# Altium schematic symbol library Pad.SchLib: 55 symbols
Pins are listed as number, name and electrical type; pins without a type are passive.

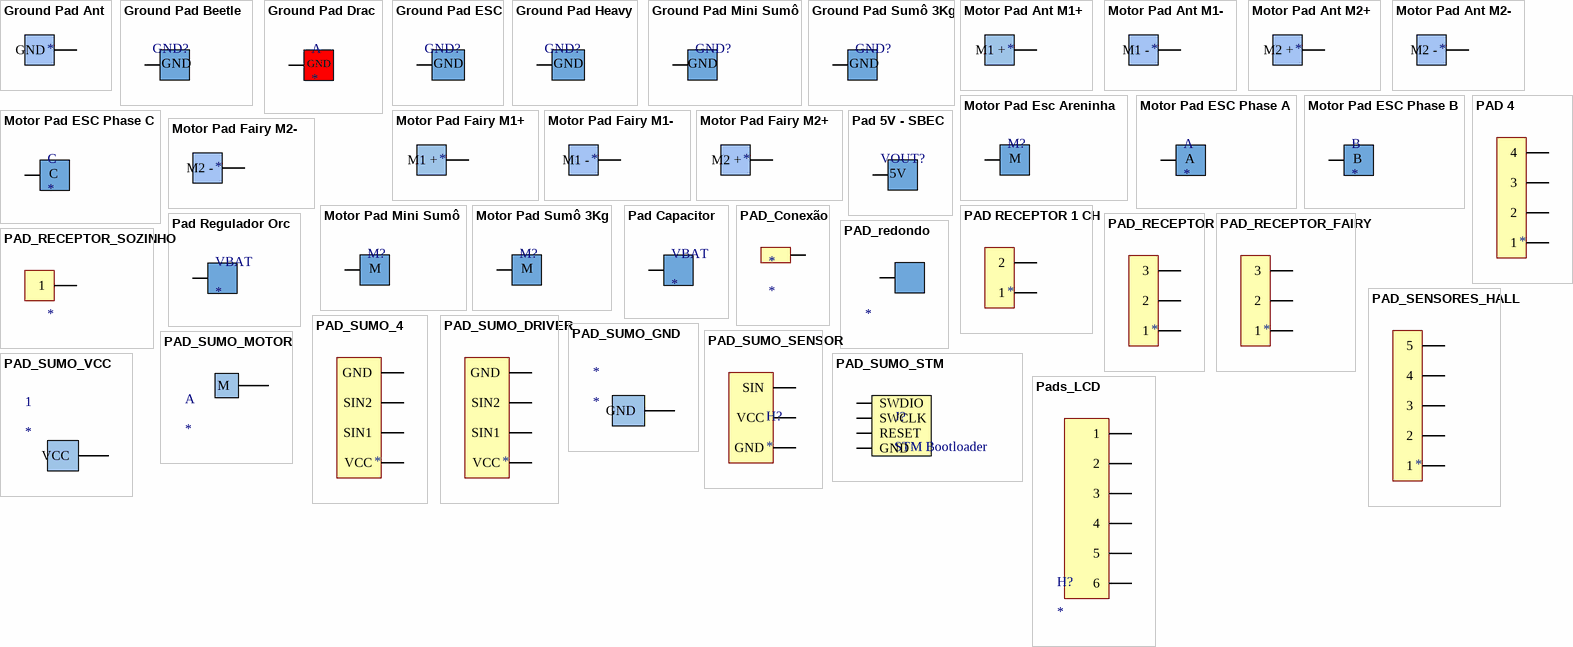
[diagram p0: symbols Ground Pad Ant to Pads_LCD]

## Ground Pad Ant
designator GND?
GND PAD ANT; Cable AWG: 26/20 (AWG); Recomended Category: Fairy/Antweight; Size: 2.7 x 2.7 (mm); Library Ref: Pads; Library Control - Checked Footprint: -
footprint PAD_ANT_VCC/GND
pins: 1 GND

## Ground Pad Beetle
designator GND?, comment Ground Pad  (value not drawn)
GND PAD BEETLE; Cable AWG: 12 (AWG); Recomended Category: Sumô 3Kg; Size: 5 x 2 (mm); Library Ref: Pads
footprint PAD_BEETLE_VCC/GND
pins: A VCC
text: GND

## Ground Pad Drac
designator A
GND PAD DRACARYS-1.3
footprint .PAD_GND_DRACARYS-1.3
pins: A Fase A
text: GND

## Ground Pad ESC
designator GND?, comment Ground Pad  (value not drawn)
GND PAD ESC; Cable AWG: 14 (AWG); Recomended Category: Hobby, Feather, Hockeys; Size: 6 x 6 (mm); Library Ref: Pads
footprint PAD_ALIMENTAÇÃO_ESC
pins: A VCC
text: GND

## Ground Pad Heavy
designator GND?, comment Ground Pad  (value not drawn)
GND PAD Heavy; Cable AWG: 8 (AWG); Recomended Category: Heavy; Size: 6 x 9 (mm); Library Ref: Pads
footprint PAD_ALIMENTAÇÃO_HEAVY
pins: A VCC
text: GND

## Ground Pad Mini Sumô
designator GND?, comment Ground Pad  (value not drawn)
GND PAD MINI SUMÔ; Cable AWG: 20 / 18 (AWG); Recomended Category: Mini Sumô; Size: 3.5 x 3.5 (mm); Library Ref: Pads
footprint PAD_ALIMENTAÇÃO_MINI
pins: A GND

## Ground Pad Sumô 3Kg
designator GND?, comment Ground Pad  (value not drawn)
GND PAD SUMÔ 3KG; Cable AWG: 12 (AWG); Recomended Category: Sumô 3Kg; Size: 5 x 2 (mm); Library Ref: Pads
footprint PAD_ALIMENTAÇÃO_3KG
pins: A GND

## Motor Pad Ant M1+
designator M?
MOTOR1+ PAD ANT; Cable AWG: 26/20 (AWG); Recomended Category: Fairy/Antweight; Size: 3 x 2.5 (mm); Library Ref: Pads; Library Control - Checked Footprint: -
footprint PAD_BEETLE_MOTOR
pins: 1 M1 +

## Motor Pad Ant M1-
designator M?
MOTOR1- PAD ANT; Cable AWG: 26/20 (AWG); Recomended Category: Fairy/Antweight; Size: 3 x 2.5 (mm); Library Ref: Pads; Library Control - Checked Footprint: -
footprint PAD_BEETLE_MOTOR
pins: 1 M1 -

## Motor Pad Ant M2+
designator M?
MOTOR2+ PAD ANT; Cable AWG: 26/20 (AWG); Recomended Category: Fairy/Antweight; Size: 3 x 2.5 (mm); Library Ref: Pads; Library Control - Checked Footprint: -
footprint PAD_BEETLE_MOTOR
pins: 1 M2 +

## Motor Pad Ant M2-
designator M?
MOTOR2- PAD ANT; Cable AWG: 26/20 (AWG); Recomended Category: Fairy/Antweight; Size: 3 x 2.5 (mm); Library Ref: Pads; Library Control - Checked Footprint: -
footprint PAD_BEETLE_MOTOR
pins: 1 M2 -

## Motor Pad Esc Areninha
designator M?, comment Motor Pad  (value not drawn)
MOTOR PAD Esc Areninha; Cable AWG: 20 / 18 (AWG); Recomended Category: Esc Areninha; Size: 3.5 x 3.5 (mm); Library Ref: Pads
footprint PAD_MOTOR_MINI
pins: M

## Motor Pad ESC Phase A
designator A
MOTOR PAD ESC PHASE A
footprint PAD_MOTOR_ESC
pins: A Fase A

## Motor Pad ESC Phase B
designator B
MOTOR PAD ESC PHASE B
footprint PAD_MOTOR_ESC
pins: A Fase B

## Motor Pad ESC Phase C
designator C
MOTOR PAD ESC PHASE C
footprint PAD_MOTOR_ESC
pins: A Fase C

## Motor Pad Fairy M1+
designator M?
MOTOR1+ PAD FAIRY; Cable AWG: 26/20 (AWG); Recomended Category: Fairy/Antweight; Size: 3 x 2.5 (mm); Library Ref: Pads; Library Control - Checked Footprint: -
footprint PAD_FAIRY_MOTOR
pins: 1 M1 +

## Motor Pad Fairy M1-
designator M?
MOTOR1- PAD FAIRY; Cable AWG: 26/20 (AWG); Recomended Category: Fairy/Antweight; Size: 3 x 2.5 (mm); Library Ref: Pads; Library Control - Checked Footprint: -
footprint PAD_FAIRY_MOTOR
pins: 1 M1 -

## Motor Pad Fairy M2+
designator M?
MOTOR2+ PAD FAIRY; Cable AWG: 26/20 (AWG); Recomended Category: Fairy/Antweight; Size: 3 x 2.5 (mm); Library Ref: Pads; Library Control - Checked Footprint: -
footprint PAD_FAIRY_MOTOR
pins: 1 M2 +

## Motor Pad Fairy M2-
designator M?
MOTOR2- PAD FAIRY; Cable AWG: 26/20 (AWG); Recomended Category: Fairy/Antweight; Size: 3 x 2.5 (mm); Library Ref: Pads; Library Control - Checked Footprint: -
footprint PAD_FAIRY_MOTOR
pins: 1 M2 -

## Motor Pad Mini Sumô
designator M?, comment Motor Pad  (value not drawn)
MOTOR PAD MINI SUMÔ; Cable AWG: 20 / 18 (AWG); Recomended Category: Mini Sumô; Size: 3.5 x 3.5 (mm); Library Ref: Pads
footprint PAD_MOTOR_MINI
pins: M

## Motor Pad Sumô 3Kg
designator M?, comment Motor Pad  (value not drawn)
MOTOR PAD SUMÔ 3KG; Cable AWG: 12 (AWG); Recomended Category: Sumô 3Kg; Size: 5 x 2 (mm); Library Ref: Pads
footprint PAD_MOTOR_3KG
pins: M

## PAD 4
designator H?
PAD 4 CONEXÕES; Cable AWG: 26/20 (AWG); Parameter 2: Telemetria; Size: 1.5 x 2.0 (mm); Library Ref: Pads; Library Control - Checked Footprint: -
footprint PAD 4
pins: 1, 2, 3, 4

## Pad 5V - SBEC
designator VOUT?, comment 5V Pad  (value not drawn)
5V PAD SBEC; Cable AWG: 18 (AWG); Recomended Category: BEETLE; Size: 5 x 2 (mm); Library Ref: Pads
footprint PAD_SBEC_5V
pins: A VCC
text: 5V

## Pad Capacitor
designator VBAT
PAD CAPACITOR
footprint PAD CAPACITOR
pins: A Fase B

## PAD RECEPTOR 1 CH
designator H?
RECEPTOR PAD 1 CH NO 5V; Cable AWG: 26/20 (AWG); Parameter 2: Telemetria; Size: 1.5 x 2.0 (mm); Library Ref: Pads; Library Control - Checked Footprint: -
footprint PAD RECEPTOR NO 5V
pins: 1, 2

## Pad Regulador Orc
designator VBAT
GND PAD REG. ORC
footprint PAD Regulador Orc
pins: A Fase B

## PAD_Conexão
designator *
footprint PAD_ALIMENTAÇÃO_HEAVY
pins: A 1

## PAD_RECEPTOR
designator H?
RECEPTOR PAD 1 CH ESC; Cable AWG: 26/20 (AWG); Parameter 2: Telemetria; Size: 1.5 x 2.0 (mm); Library Ref: Pads; Library Control - Checked Footprint: -
footprint PAD_RECEPTOR
pins: 1, 2, 3

## PAD_RECEPTOR_FAIRY
designator H?
RECEPTOR PAD 1 CH FAIRY; Cable AWG: 26/20 (AWG); Parameter 2: Telemetria; Size: 1.5 x 2.0 (mm); Library Ref: Pads; Library Control - Checked Footprint: -
footprint PAD_RECEPTOR_FAIRY
pins: 1, 2, 3

## PAD_RECEPTOR_SOZINHO
designator H?
RECEPTOR PAD 1 CH ESC; Cable AWG: 26/20 (AWG); Parameter 2: Telemetria; Size: 1.5 x 2.0 (mm); Library Ref: Pads; Library Control - Checked Footprint: -
footprint PAD RECEPTOR
pins: 1

## PAD_redondo
designator 1
PAD REDONDO
footprint PAD_REDONDO
pins: 1 PAD

## PAD_SENSORES_HALL
designator H?
PAD SENSORES HALL; Cable AWG: 26/20 (AWG); Parameter 2: Telemetria; Size: 1.5 x 2.0 (mm); Library Ref: Pads; Library Control - Checked Footprint: -
footprint PAD_SENSOR_HALL
pins: 1, 2, 3, 4, 5

## PAD_SUMO_4
designator H?
Pad para interfaces; Cable AWG: 26/20 (AWG); Parameter 2: Telemetria; Size: 1.5 x 2.0 (mm); Library Ref: Pads; Library Control - Checked Footprint: -
footprint PAD_SUMO_4
pins: GND, SIN1, SIN2, VCC

## PAD_SUMO_DRIVER
designator H?
Pad para módulo de driver; Cable AWG: 26/20 (AWG); Parameter 2: Telemetria; Size: 1.5 x 2.0 (mm); Library Ref: Pads; Library Control - Checked Footprint: -
footprint PAD_SUMO_DRIVER
pins: GND, SIN1, SIN2, VCC

## PAD_SUMO_GND
designator *
footprint PAD_SUMO_3KG
pins: 1 GND

## PAD_SUMO_MOTOR
designator A
footprint PAD_SUMO_3KG
pins: 1 M

## PAD_SUMO_SENSOR
designator H?
Pad para Sensor Infravermelho; Library Ref: Pads; Library Control - Checked Footprint: -
footprint PAD_SUMO_SENSOR
pins: GND, SIN, VCC

## PAD_SUMO_STM
designator J?, comment STM Bootloader
BARRAMENTO DE GRAVAÇÃO; Number of Contacts: 5; Library Ref: Header
footprint PAD_SUMO_STM
pins: CLK SWCLK, DIO SWDIO, GND, RESET

## PAD_SUMO_VCC
designator 1
footprint PAD_SUMO_3KG
pins: 1 VCC

## Pads_LCD
designator H?
Pads LCD
footprint Pads_LCD
pins: 1, 2, 3, 4, 5, 6

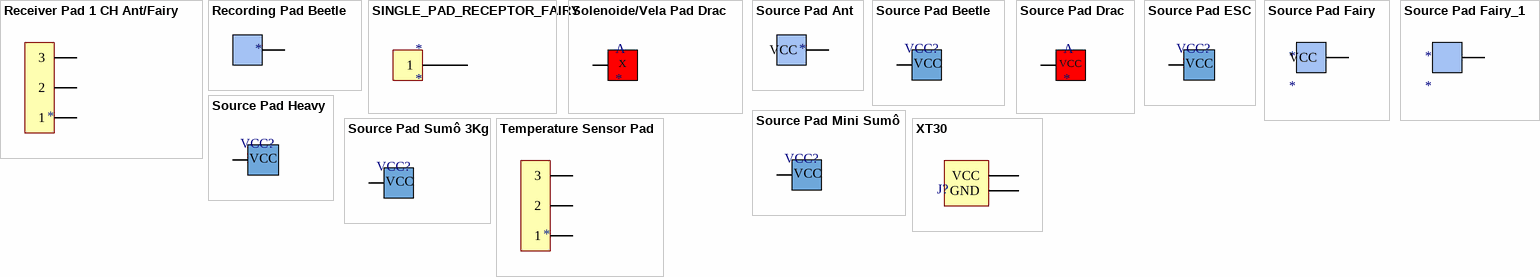
[diagram p1: symbols Receiver Pad 1 CH Ant/Fairy to XT30]

## Receiver Pad 1 CH Ant/Fairy
designator H?
RECEPTOR PAD 1 CH ANT/FAIRY; Cable AWG: 26/20 (AWG); Parameter 2: Fairy/Antweight; Size: 1.5 x 2.0 (mm); Library Ref: Pads; Library Control - Checked Footprint: -
footprint PAD_RECEPTOR
pins: 1, 2, 3

## Recording Pad Beetle
designator G?
GRAVAÇÃO PAD BEETLE; Cable AWG: 18 (AWG); Recomended Category: Beetle/Ant/Fairyweight; Size: 1.2 x 1.2 (mm); Library Ref: Pads; Library Control - Checked Footprint: -
footprint PAD_ESCBEETLE_GRAVAÇÃO
pins: 1

## SINGLE_PAD_RECEPTOR_FAIRY
designator *
footprint SILGLE_PAD_RECEPTOR_FAIRY
pins: 1

## Solenoide/Vela Pad Drac
designator A
SOLENOIDE/VELA PAD DRACARYS-1.3
footprint .PAD_ETC_DRACARYS-1.3
pins: A Fase A
text: X

## Source Pad Ant
designator VCC?
VCC PAD ANT; Cable AWG: 26/20 (AWG); Recomended Category: Fairy/Antweight; Size: 2.7 x 2.7 (mm); Library Ref: Pads; Library Control - Checked Footprint: -
footprint PAD_ANT_VCC/GND
pins: 1 VCC

## Source Pad Beetle
designator VCC?, comment Source Pad  (value not drawn)
VCC PAD BEETLE; Cable AWG: 12 (AWG); Recomended Category: Sumô 3Kg; Size: 5 x 2 (mm); Library Ref: Pads
footprint PAD_BEETLE_VCC/GND
pins: A VCC

## Source Pad Drac
designator A
VCC PAD DRACARYS-1.3
footprint .PAD_VCC_DRACARYS-1.3
pins: A VCC

## Source Pad ESC
designator VCC?, comment Source Pad  (value not drawn)
VCC PAD ESC; Cable AWG: 14 (AWG); Recomended Category: Hobby, Feather, Hockeys; Size: 6 x 6 (mm); Library Ref: Pads
footprint PAD_ALIMENTAÇÃO_ESC
pins: A VCC

## Source Pad Fairy
designator *
VCC PAD FAIRY
footprint PAD_FAIRY
pins: 1 VCC

## Source Pad Fairy_1
designator *
PAD FAIRY COMETA
footprint PAD_FAIRY_COMETA
pins: 1

## Source Pad Heavy
designator VCC?, comment Source Pad  (value not drawn)
VCC PAD HEAVY; Cable AWG: 8 (AWG); Recomended Category: Heavy; Size: 6 x 9 (mm); Library Ref: Pads
footprint PAD_ALIMENTAÇÃO_HEAVY
pins: A VCC

## Source Pad Mini Sumô
designator VCC?, comment Source Pad  (value not drawn)
VCC PAD MINI SUMÔ; Cable AWG: 20 / 18 (AWG); Recomended Category: Mini Sumô; Size: 3.5 x 3.5 (mm); Library Ref: Pads
footprint PAD_ALIMENTAÇÃO_MINI
pins: A VCC

## Source Pad Sumô 3Kg
designator VCC?, comment Source Pad  (value not drawn)
VCC PAD SUMÔ 3KG; Cable AWG: 12 (AWG); Recomended Category: Sumô 3Kg; Size: 5 x 2 (mm); Library Ref: Pads
footprint PAD_ALIMENTAÇÃO_3KG
pins: A VCC

## Temperature Sensor Pad
designator H?
RECEPTOR PAD 1 CH ANT/FAIRY; Cable AWG: 26/20 (AWG); Parameter 2: Telemetria; Size: 1.5 x 2.0 (mm); Library Ref: Pads; Library Control - Checked Footprint: -
footprint PAD_TEMPERATURE_SENSOR
pins: 1, 2, 3

## XT30
designator J?, comment BATTERY  (value not drawn)
CONN BATTERY HORZ 2POS XT30; Library Control - Checked Footprint: Under review; Library Control - Checked Schematic: Yes; Library Control - Last Project that Used: Follow-Final; Library Control - Person that Checked Footprint: Lucas; Library Control - Person that did the Last Update Footprint: Mateus(Dimas); Library Control - Last Update: 24/04/2021 00:25; Library Control - Person that Checked Schematic: Lucas; Library Control - Person that did the Last Update Schematic: Mateus(Dimas); ComponentLink1Description: Supplier Link; ComponentLink1URL: https://www.gobilda.com/right-angle-pcb-mount-xt30-connector-mh-fc-2-pack/
footprint XT30 (Header, Vertical, 2.54 mm pitch; 0.66 mm lead width, 5 pins, 1 row, 5 pins per row, 12.70 mm L X 2.49 mm W X 9.02 mm H body)
pins: 1 VCC, 2 GND